# Altium footprint library Altium-IC.PcbLib: 56 footprints (part 2 of 4)
Each footprint in its own frame and in the unit in brackets; x right, y up, seen from the top. Pads: shape width x height; smd on the part's side, far side on the other; paste and mask are expansions set on the pad; w line width, h text height; cw(c..) or ccw(c..) is an arc to the next point about the centre after c.
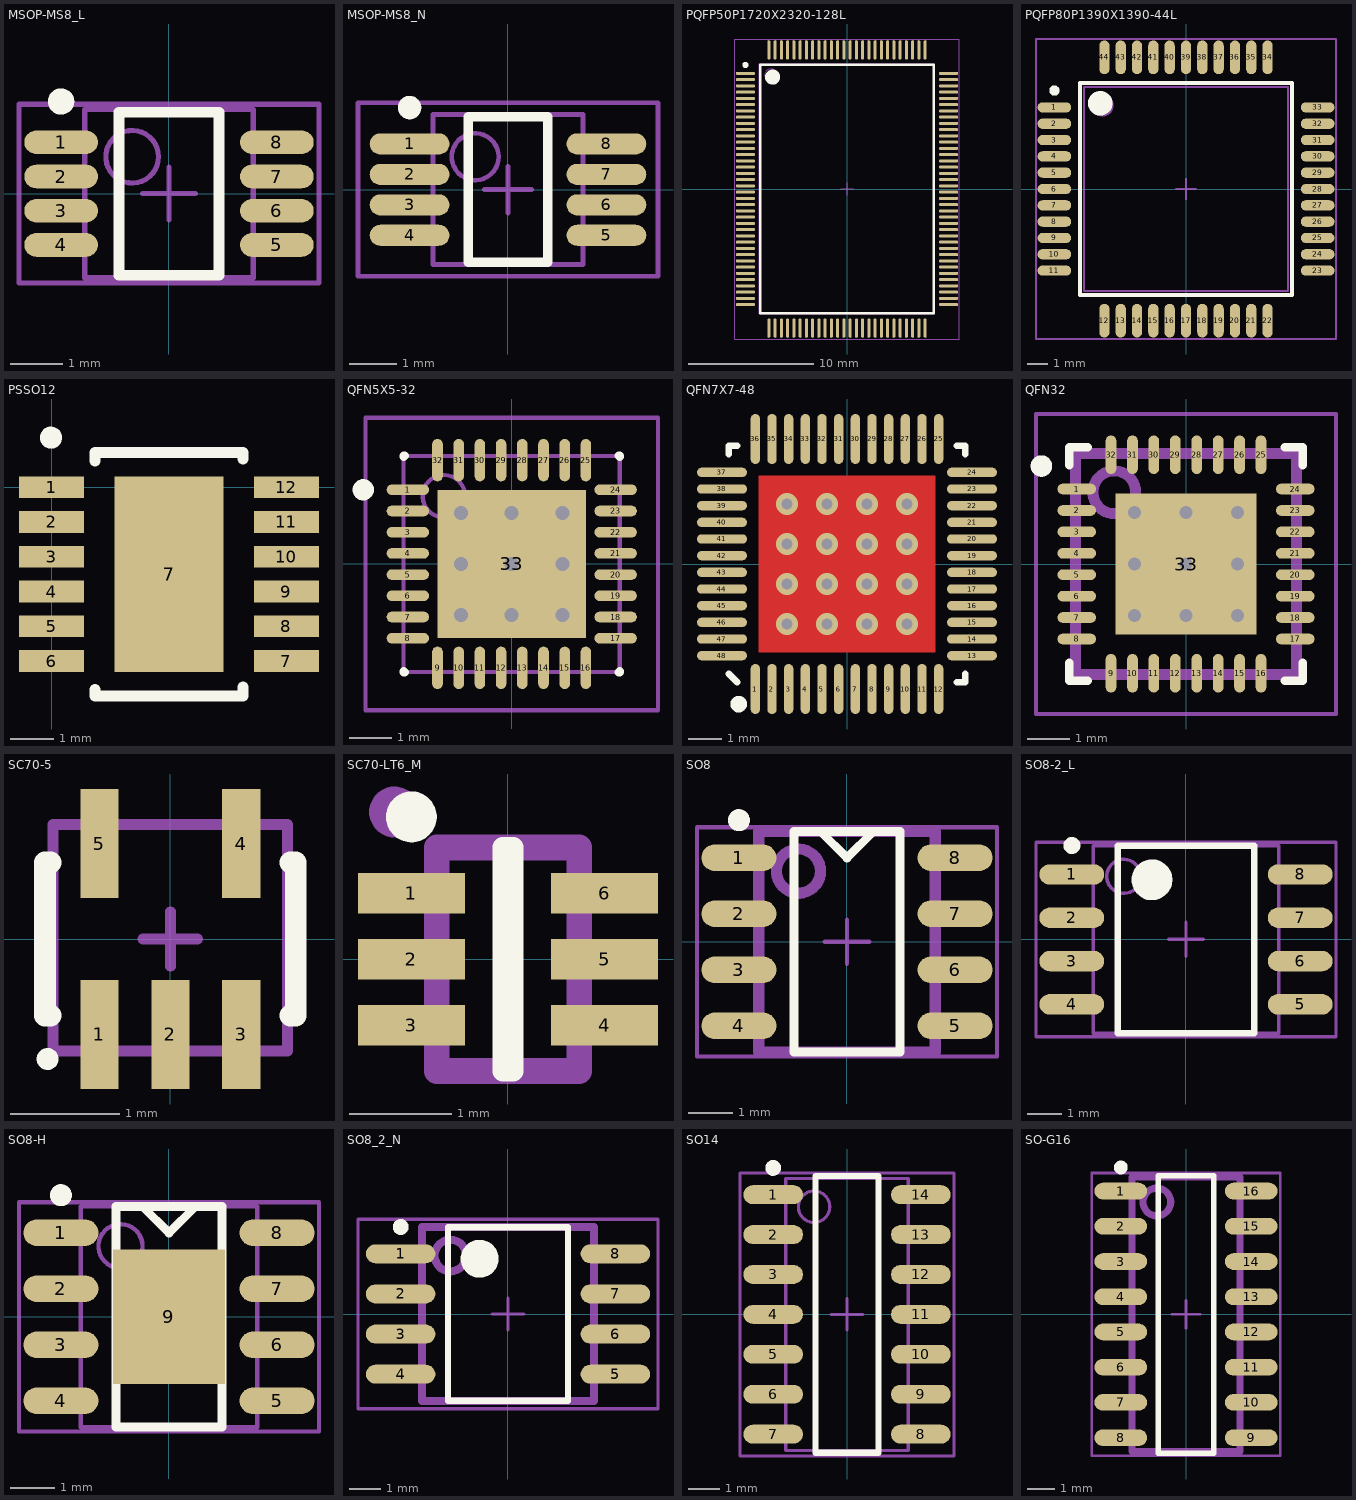
[diagram p1: the footprints below, top view; thin cyan lines are the x and y axes]

## MSOP-MS8_L [mm] "TSOP, 8-Leads, Body 3x3mm, Pitch 0.65mm, IPC High Density"
height 1.1
pads (8):
  oval 1.4x0.45 smd: 1(-2.05,0.975) 2(-2.05,0.325) 3(-2.05,-0.325) 4(-2.05,-0.975) 5(2.05,-0.975) 6(2.05,-0.325) 7(2.05,0.325) 8(2.05,0.975)
Top Overlay:
  circle w0.25: c-2.05,1.75 r0.125
  lines w0.2: -0.95,-1.55 -0.95,1.55 0.95,1.55 0.95,-1.55 -0.95,-1.55
Mechanical 13:
  circle w0.1: c-0.7,0.7 r0.5
  lines w0.1: -1.6,-1.6 -1.6,1.6 1.6,1.6 1.6,-1.6 -1.6,-1.6
Mechanical 15:
  lines w0.1: -0.5,0 0.5,0 ; 0,-0.5 0,0.5 ; -2.85,-1.7 -2.85,1.7 2.85,1.7 2.85,-1.7 -2.85,-1.7
3D body: height 1.1, standoff 0, extent -1.6,-1.6 1.6,1.6

## MSOP-MS8_N [mm] "TSOP, 8-Leads, Body 3x3mm, Pitch 0.65mm, IPC Medium Density"
height 1.1
pads (8):
  oval 1.7x0.45 smd: 1(-2.1,0.975) 2(-2.1,0.325) 3(-2.1,-0.325) 4(-2.1,-0.975) 5(2.1,-0.975) 6(2.1,-0.325) 7(2.1,0.325) 8(2.1,0.975)
Top Overlay:
  circle w0.25: c-2.1,1.75 r0.125
  lines w0.2: -0.85,-1.55 0.85,-1.55 0.85,1.55 -0.85,1.55 -0.85,-1.55
Mechanical 13:
  circle w0.1: c-0.7,0.7 r0.5
  lines w0.1: -1.6,-1.6 1.6,-1.6 1.6,1.6 -1.6,1.6 -1.6,-1.6
Mechanical 15:
  lines w0.1: -0.5,0 0.5,0 ; 0,-0.5 0,0.5 ; -3.2,-1.85 3.2,-1.85 3.2,1.85 -3.2,1.85 -3.2,-1.85
3D body: height 1.1, standoff 0, extent -1.6,-1.6 1.6,1.6

## PQFP50P1720X2320-128L [mm] "Shrink QFP, 128-Leads, Body 20x14 mm, Pitch 0.5mm, IPC High Density"
height 3
pads (128):
  oval 1.55x0.25 smd: 1(-8.125,9.25) 2(-8.125,8.75) 3(-8.125,8.25) 4(-8.125,7.75) 5(-8.125,7.25) 6(-8.125,6.75) 7(-8.125,6.25) 8(-8.125,5.75) 9(-8.125,5.25) 10(-8.125,4.75) 11(-8.125,4.25) 12(-8.125,3.75) 13(-8.125,3.25) 14(-8.125,2.75) 15(-8.125,2.25) 16(-8.125,1.75) 17(-8.125,1.25) 18(-8.125,0.75) 19(-8.125,0.25) 20(-8.125,-0.25) 21(-8.125,-0.75) 22(-8.125,-1.25) 23(-8.125,-1.75) 24(-8.125,-2.25) 25(-8.125,-2.75) 26(-8.125,-3.25) 27(-8.125,-3.75) 28(-8.125,-4.25) 29(-8.125,-4.75) 30(-8.125,-5.25) 31(-8.125,-5.75) 32(-8.125,-6.25) 33(-8.125,-6.75) 34(-8.125,-7.25) 35(-8.125,-7.75) 36(-8.125,-8.25) 37(-8.125,-8.75) 38(-8.125,-9.25) 65(8.125,-9.25) 66(8.125,-8.75) 67(8.125,-8.25) 68(8.125,-7.75) 69(8.125,-7.25) 70(8.125,-6.75) 71(8.125,-6.25) 72(8.125,-5.75) 73(8.125,-5.25) 74(8.125,-4.75) 75(8.125,-4.25) 76(8.125,-3.75) 77(8.125,-3.25) 78(8.125,-2.75) 79(8.125,-2.25) 80(8.125,-1.75) 81(8.125,-1.25) 82(8.125,-0.75) 83(8.125,-0.25) 84(8.125,0.25) 85(8.125,0.75) 86(8.125,1.25) 87(8.125,1.75) 88(8.125,2.25) 89(8.125,2.75) 90(8.125,3.25) 91(8.125,3.75) 92(8.125,4.25) 93(8.125,4.75) 94(8.125,5.25) 95(8.125,5.75) 96(8.125,6.25) 97(8.125,6.75) 98(8.125,7.25) 99(8.125,7.75) 100(8.125,8.25) 101(8.125,8.75) 102(8.125,9.25)
  oval 0.25x1.55 smd: 39(-6.25,-11.125) 40(-5.75,-11.125) 41(-5.25,-11.125) 42(-4.75,-11.125) 43(-4.25,-11.125) 44(-3.75,-11.125) 45(-3.25,-11.125) 46(-2.75,-11.125) 47(-2.25,-11.125) 48(-1.75,-11.125) 49(-1.25,-11.125) 50(-0.75,-11.125) 51(-0.25,-11.125) 52(0.25,-11.125) 53(0.75,-11.125) 54(1.25,-11.125) 55(1.75,-11.125) 56(2.25,-11.125) 57(2.75,-11.125) 58(3.25,-11.125) 59(3.75,-11.125) 60(4.25,-11.125) 61(4.75,-11.125) 62(5.25,-11.125) 63(5.75,-11.125) 64(6.25,-11.125) 103(6.25,11.125) 104(5.75,11.125) 105(5.25,11.125) 106(4.75,11.125) 107(4.25,11.125) 108(3.75,11.125) 109(3.25,11.125) 110(2.75,11.125) 111(2.25,11.125) 112(1.75,11.125) 113(1.25,11.125) 114(0.75,11.125) 115(0.25,11.125) 116(-0.25,11.125) 117(-0.75,11.125) 118(-1.25,11.125) 119(-1.75,11.125) 120(-2.25,11.125) 121(-2.75,11.125) 122(-3.25,11.125) 123(-3.75,11.125) 124(-4.25,11.125) 125(-4.75,11.125) 126(-5.25,11.125) 127(-5.75,11.125) 128(-6.25,11.125)
Top Overlay:
  circle w0.25: c-8.125,9.925 r0.125
  circle w0.6: c-5.95,8.95 r0.3
  lines w0.2: -6.95,-9.95 -6.95,9.95 6.95,9.95 6.95,-9.95 -6.95,-9.95
Mechanical 13:
  circle w0.1: c-6.1,9.1 r0.5
  lines w0.1: -7,-10 -7,10 7,10 7,-10 -7,-10
Mechanical 15:
  lines w0.1: -0.5,0 0.5,0 ; 0,-0.5 0,0.5 ; -9,-12 -9,12 9,12 9,-12 -9,-12
3D body: height 3, standoff 0, extent -7,-10 7,10

## PQFP80P1390X1390-44L [mm] "QFP, 44-Leads, Body 10x10mm, Pitch 0.8mm, IPC High Density"
height 2.44
pads (44):
  oval 1.65x0.5 smd: 1(-6.45,4) 2(-6.45,3.2) 3(-6.45,2.4) 4(-6.45,1.6) 5(-6.45,0.8) 6(-6.45,0) 7(-6.45,-0.8) 8(-6.45,-1.6) 9(-6.45,-2.4) 10(-6.45,-3.2) 11(-6.45,-4) 23(6.45,-4) 24(6.45,-3.2) 25(6.45,-2.4) 26(6.45,-1.6) 27(6.45,-0.8) 28(6.45,0) 29(6.45,0.8) 30(6.45,1.6) 31(6.45,2.4) 32(6.45,3.2) 33(6.45,4)
  oval 0.5x1.65 smd: 12(-4,-6.45) 13(-3.2,-6.45) 14(-2.4,-6.45) 15(-1.6,-6.45) 16(-0.8,-6.45) 17(0,-6.45) 18(0.8,-6.45) 19(1.6,-6.45) 20(2.4,-6.45) 21(3.2,-6.45) 22(4,-6.45) 34(4,6.45) 35(3.2,6.45) 36(2.4,6.45) 37(1.6,6.45) 38(0.8,6.45) 39(0,6.45) 40(-0.8,6.45) 41(-1.6,6.45) 42(-2.4,6.45) 43(-3.2,6.45) 44(-4,6.45)
Top Overlay:
  circle w0.25: c-6.45,4.825 r0.125
  circle w0.6: c-4.2,4.2 r0.3
  lines w0.2: -5.2,-5.2 -5.2,5.2 5.2,5.2 5.2,-5.2 -5.2,-5.2
Mechanical 13:
  circle w0.1: c-4.1,4.1 r0.5
  lines w0.1: -5,-5 -5,5 5,5 5,-5 -5,-5
Mechanical 15:
  lines w0.1: -0.5,0 0.5,0 ; 0,-0.5 0,0.5 ; -7.35,-7.35 -7.35,7.35 7.35,7.35 7.35,-7.35 -7.35,-7.35
3D body: height 1.9, standoff 0, extent -6.3,-6.3 6.3,6.3

## PSSO12 [mm]
height 1.65
pads (13):
  rect 1.5x0.5 smd: 1(0,0) 2(0,-0.8) 3(0,-1.6) 4(0,-2.4) 5(0,-3.2) 6(0,-4) 7(5.4,-4) 8(5.4,-3.2) 9(5.4,-2.4) 10(5.4,-1.6) 11(5.4,-0.8) 12(5.4,0)
  rect 2.5x4.5 smd: 7(2.7,-2)
Top Overlay:
  circle w0.254: c-0.015,1.138 r0.127
  lines w0.254: 1,-4.65 1,-4.8 2.7,-4.8 4.4,-4.8 4.4,-4.6 ; 1,0.6 1,0.8 2.7,0.8 4.4,0.8 4.4,0.65
3D body: height 1.65, standoff 0, extent 0.8,-4.75 4.6,0.75

## QFN5X5-32 [mm] "QFN, 32-Leads, Body 5,1x5,1mm (max), Pitch 0,50mm, IPC Low Density"
height 1
pads (33):
  oval 1x0.25 smd: 1(-2.45,1.75) 2(-2.45,1.25) 3(-2.45,0.75) 4(-2.45,0.25) 5(-2.45,-0.25) 6(-2.45,-0.75) 7(-2.45,-1.25) 8(-2.45,-1.75) 17(2.45,-1.75) 18(2.45,-1.25) 19(2.45,-0.75) 20(2.45,-0.25) 21(2.45,0.25) 22(2.45,0.75) 23(2.45,1.25) 24(2.45,1.75)
  oval 0.25x1 smd: 9(-1.75,-2.45) 10(-1.25,-2.45) 11(-0.75,-2.45) 12(-0.25,-2.45) 13(0.25,-2.45) 14(0.75,-2.45) 15(1.25,-2.45) 16(1.75,-2.45) 25(1.75,2.45) 26(1.25,2.45) 27(0.75,2.45) 28(0.25,2.45) 29(-0.25,2.45) 30(-0.75,2.45) 31(-1.25,2.45) 32(-1.75,2.45)
  rect 3.5x3.5 smd: 33(0,0)
via -1.2,1.2 diameter 0.66 hole 0.33
via 0,1.2 diameter 0.66 hole 0.33
via 1.2,1.2 diameter 0.66 hole 0.33
via -1.2,0 diameter 0.66 hole 0.33
via 0,0 diameter 0.66 hole 0.33
via 1.2,0 diameter 0.66 hole 0.33
via -1.2,-1.2 diameter 0.66 hole 0.33
via 0,-1.2 diameter 0.66 hole 0.33
via 1.2,-1.2 diameter 0.66 hole 0.33
Top Overlay:
  circle w0.25: c-3.5,1.75 r0.125
  lines w0.2: -2.55,-2.525 -2.55,-2.55 -2.525,-2.55 ; -2.55,2.525 -2.55,2.55 -2.525,2.55 ; 2.525,-2.55 2.55,-2.55 2.55,-2.525 ; 2.525,2.55 2.55,2.55 2.55,2.525
Mechanical 13:
  circle w0.1: c-1.6,1.6 r0.5
  lines w0.1: -2.55,-2.55 -2.55,2.55 2.55,2.55 2.55,-2.55 -2.55,-2.55
Mechanical 15:
  lines w0.1: -0.5,0 0.5,0 ; 0,-0.5 0,0.5 ; -3.45,-3.45 -3.45,3.45 3.45,3.45 3.45,-3.45 -3.45,-3.45
3D body: height 1, standoff 0.02, extent -2.55,-2.55 2.55,2.55

## QFN7X7-48 [mm]
height 0.9
pads (48):
  oval 0.28x1.5 smd: 1(-2.75,-3.75) 2(-2.25,-3.75) 3(-1.75,-3.75) 4(-1.25,-3.75) 5(-0.75,-3.75) 6(-0.25,-3.75) 7(0.25,-3.75) 8(0.75,-3.75) 9(1.25,-3.75) 10(1.75,-3.75) 11(2.25,-3.75) 12(2.75,-3.75) 25(2.75,3.75) 26(2.25,3.75) 27(1.75,3.75) 28(1.25,3.75) 29(0.75,3.75) 30(0.25,3.75) 31(-0.25,3.75) 32(-0.75,3.75) 33(-1.25,3.75) 34(-1.75,3.75) 35(-2.25,3.75) 36(-2.75,3.75)
  oval 1.5x0.28 smd: 13(3.75,-2.75) 14(3.75,-2.25) 15(3.75,-1.75) 16(3.75,-1.25) 17(3.75,-0.75) 18(3.75,-0.25) 19(3.75,0.25) 20(3.75,0.75) 21(3.75,1.25) 22(3.75,1.75) 23(3.75,2.25) 24(3.75,2.75) 37(-3.75,2.75) 38(-3.75,2.25) 39(-3.75,1.75) 40(-3.75,1.25) 41(-3.75,0.75) 42(-3.75,0.25) 43(-3.75,-0.25) 44(-3.75,-0.75) 45(-3.75,-1.25) 46(-3.75,-1.75) 47(-3.75,-2.25) 48(-3.75,-2.75)
via -1.8,-1.8 diameter 0.66 hole 0.33
via -1.8,-0.6 diameter 0.66 hole 0.33
via -0.6,-1.8 diameter 0.66 hole 0.33
via -0.6,-0.6 diameter 0.66 hole 0.33
via -1.8,0.6 diameter 0.66 hole 0.33
via -1.8,1.8 diameter 0.66 hole 0.33
via -0.6,0.6 diameter 0.66 hole 0.33
via -0.6,1.8 diameter 0.66 hole 0.33
via 1.8,-0.6 diameter 0.66 hole 0.33
via 1.8,-1.8 diameter 0.66 hole 0.33
via 0.6,-1.8 diameter 0.66 hole 0.33
via 0.6,-0.6 diameter 0.66 hole 0.33
via 1.8,1.8 diameter 0.66 hole 0.33
via 1.8,0.6 diameter 0.66 hole 0.33
via 0.6,0.6 diameter 0.66 hole 0.33
via 0.6,1.8 diameter 0.66 hole 0.33
Top Layer:
  region: -2.65,-2.65 2.65,-2.65 2.65,2.65 -2.65,2.65
Top Overlay:
  circle w0.25: c-3.25,-4.205 r0.125
  lines w0.2: -3.55,-3.29 -3.29,-3.55 ; -3.55,3.29 -3.55,3.55 -3.29,3.55 ; 3.29,-3.55 3.55,-3.55 3.55,-3.29 ; 3.29,3.55 3.55,3.55 3.55,3.29
Top Solder:
  region: -2.65,-2.65 2.65,-2.65 2.65,2.65 -2.65,2.65
3D body: height 0.9, standoff 0, extent -3.5,-3.5 3.5,3.5

## QFN32 [mm]
pads (33):
  oval 0.9x0.25 smd: 1(-2.55,1.75) 2(-2.55,1.25) 3(-2.55,0.75) 4(-2.55,0.25) 5(-2.55,-0.25) 6(-2.55,-0.75) 7(-2.55,-1.25) 8(-2.55,-1.75) 17(2.55,-1.75) 18(2.55,-1.25) 19(2.55,-0.75) 20(2.55,-0.25) 21(2.55,0.25) 22(2.55,0.75) 23(2.55,1.25) 24(2.55,1.75)
  oval 0.25x0.9 smd: 9(-1.75,-2.55) 10(-1.25,-2.55) 11(-0.75,-2.55) 12(-0.25,-2.55) 13(0.25,-2.55) 14(0.75,-2.55) 15(1.25,-2.55) 16(1.75,-2.55) 25(1.75,2.55) 26(1.25,2.55) 27(0.75,2.55) 28(0.25,2.55) 29(-0.25,2.55) 30(-0.75,2.55) 31(-1.25,2.55) 32(-1.75,2.55)
  rect 3.3x3.3 smd: 33(0,0)
via 1.2,-1.2 diameter 0.8 hole 0.3
via 0,-1.2 diameter 0.8 hole 0.3
via -1.2,-1.2 diameter 0.8 hole 0.3
via 1.2,0 diameter 0.8 hole 0.3
via 0,0 diameter 0.8 hole 0.3
via -1.2,0 diameter 0.8 hole 0.3
via 1.2,1.2 diameter 0.8 hole 0.3
via 0,1.2 diameter 0.8 hole 0.3
via -1.2,1.2 diameter 0.8 hole 0.3
Top Overlay:
  circle w0.25: c-3.376,2.286 r0.125
  lines w0.2: -2.725,-2.3 -2.725,-2.725 -2.3,-2.725 ; -2.725,2.3 -2.725,2.725 -2.3,2.725 ; 2.3,-2.725 2.725,-2.725 2.725,-2.3 ; 2.3,2.725 2.725,2.725 2.725,2.3
Mechanical 13:
  circle w0.254: c-1.675,1.675 r0.5
  lines w0.254: -2.575,-2.575 2.575,-2.575 2.575,2.575 -2.575,2.575 -2.575,-2.575
  text ".Designator" at -3.65,3.9 h2
Mechanical 15:
  lines w0.1: -0.5,0 0.5,0 ; 0,-0.5 0,0.5 ; -3.5,-3.5 3.5,-3.5 3.5,3.5 -3.5,3.5 -3.5,-3.5
3D body: height 1, standoff 0, extent -2.575,-2.575 2.575,2.575

## SC70-5 [mm] "SOT-353/SC-88A; 5 Leads; Body 2.2 x 2.4 mm, inc. leads (LxW max)"
height 1.1
pads (5):
  rect 0.35x1 smd: 1(-0.65,-0.875) 2(0,-0.875) 3(0.65,-0.875) 4(0.65,0.875) 5(-0.65,0.875)
Top Overlay:
  circle w0.1: c-1.125,-1.1 r0.05
  lines w0.2: -1.1,-0.7 -1.15,-0.7 -1.15,0.7 -1.1,0.7 ; 1.1,-0.7 1.15,-0.7 1.15,0.7 1.1,0.7
Mechanical 13:
  lines w0.1: -1.075,-1.025 1.075,-1.025 1.075,1.05 -1.075,1.05 -1.075,-1.025
Mechanical 15:
  lines w0.1: -0.25,0 0.25,0 ; 0,-0.25 0,0.25
3D body: height 0.95, standoff 0, extent -1,-1.05 1,1.05

## SC70-LT6_M [mm] "SOT363, 6-Leads, Body 2x1.3mm, Pitch 0.65mm, Lead Span 2.1mm, IPC Low Density"
pads (6):
  rect 1.05x0.4 smd: 1(-0.95,0.65) 2(-0.95,0) 3(-0.95,-0.65) 4(0.95,-0.65) 5(0.95,0) 6(0.95,0.65)
Top Overlay:
  circle w0.25: c-0.95,1.4 r0.125
  lines w0.2: -0.05,-1.1 -0.05,1.1 0.05,1.1 0.05,-1.1 -0.05,-1.1
Mechanical 13:
  circle w0.25: c-1.116,1.448 r0.125
  lines w0.254: -1.27,-0.635 -0.737,-0.635 ; -1.245,0.025 -0.711,0.025 ; -1.245,0.686 -0.711,0.686 ; 0.711,-0.635 1.245,-0.635 ; 0.711,0.025 1.245,0.025 ; 0.711,0.686 1.245,0.686 ; -0.7,-1.1 0.7,-1.1 0.7,1.1 -0.7,1.1 -0.7,-1.1
  text ".Designator" at -1.475,2.225 h2
3D body: height 1.1, standoff 0, extent -0.7,-1.1 0.7,1.1

## SO8 [mm] "SOIC, 8-Leads, Body 4.9x3.9mm, Pitch 1.27mm, IPC High Density"
height 1.75
pads (8):
  oval 1.7x0.6 smd: 1(-2.45,1.905) 2(-2.45,0.635) 3(-2.45,-0.635) 4(-2.45,-1.905) 5(2.45,-1.905) 6(2.45,-0.635) 7(2.45,0.635) 8(2.45,1.905)
Top Overlay:
  circle w0.25: c-2.45,2.755 r0.125
  lines w0.2: 0.6,2.5 0,1.9 ; -0.6,2.5 -0.6,2.5 ; -0.6,2.5 0,1.9 ; 0,1.9 0,1.9 ; -1.2,-2.5 -1.2,2.5 1.2,2.5 1.2,-2.5 -1.2,-2.5
Mechanical 13:
  circle w0.254: c-1.1,1.6 r0.5
  lines w0.254: -2,-2.032 -3.067,-2.032 -3.067,-1.778 -2,-1.778 ; -2,-0.762 -3.067,-0.762 -3.067,-0.508 -2,-0.508 ; -2,0.508 -3.067,0.508 -3.067,0.762 -2,0.762 ; -2,1.778 -3.067,1.778 -3.067,2.032 -2,2.032 ; 2,-2.032 3.067,-2.032 3.067,-1.778 2,-1.778 ; 2,-0.762 3.067,-0.762 3.067,-0.508 2,-0.508 ; 2,0.508 3.067,0.508 3.067,0.762 2,0.762 ; 2,1.778 3.067,1.778 3.067,2.032 2,2.032 ; -2,-2.5 -2,2.5 2,2.5 2,-2.5 -2,-2.5
  text ".Designator" at -3.3,3.5 h2
Mechanical 15:
  lines w0.1: -0.5,0 0.5,0 ; 0,-0.5 0,0.5 ; -3.4,-2.6 -3.4,2.6 3.4,2.6 3.4,-2.6 -3.4,-2.6
3D body: height 1.53, standoff 0, extent -3,-2.45 3,2.45

## SO8-2_L [mm] "8-Pin Small Outline Package 200mil, 1.27 mm Pitch, IPC High Density"
height 2.03
pads (8):
  oval 1.9x0.6 smd: 1(-3.35,1.905) 2(-3.35,0.635) 3(-3.35,-0.635) 4(-3.35,-1.905) 5(3.35,-1.905) 6(3.35,-0.635) 7(3.35,0.635) 8(3.35,1.905)
Top Overlay:
  circle w0.6: c-1,1.75 r0.3
  circle w0.25: c-3.35,2.755 r0.125
  lines w0.2: -2,-2.75 2,-2.75 2,2.75 -2,2.75 -2,-2.75
Mechanical 13:
  circle w0.1: c-1.825,1.85 r0.5
  lines w0.1: -2.725,-2.75 2.725,-2.75 2.725,2.75 -2.725,2.75 -2.725,-2.75
Mechanical 15:
  lines w0.1: -0.5,0 0.5,0 ; 0,-0.5 0,0.5 ; -4.4,-2.85 4.4,-2.85 4.4,2.85 -4.4,2.85 -4.4,-2.85
3D body: height 2.03, standoff 0, extent -2.725,-2.75 2.725,2.75

## SO8-H [mm] "SOIC with Exposed pad, 8-Leads, Body 4.9x3.9mm, Pitch 1.27mm, IPC High Density"
height 1.75
pads (9):
  oval 1.7x0.6 smd: 1(-2.45,1.905) 2(-2.45,0.635) 3(-2.45,-0.635) 4(-2.45,-1.905) 5(2.45,-1.905) 6(2.45,-0.635) 7(2.45,0.635) 8(2.45,1.905)
  rect 2.54x3.048 smd: 9(0,0)
Top Overlay:
  circle w0.25: c-2.45,2.755 r0.125
  lines w0.2: 0.6,2.5 0,1.9 ; -0.6,2.5 0,1.9 ; -0.6,2.5 -0.6,2.5 ; 0,1.9 0,1.9 ; -1.2,-2.5 1.2,-2.5 1.2,2.5 -1.2,2.5 -1.2,-2.5
Mechanical 13:
  circle w0.1: c-1.1,1.6 r0.5
  lines w0.1: -2,-2.5 2,-2.5 2,2.5 -2,2.5 -2,-2.5
Mechanical 15:
  lines w0.1: -0.5,0 0.5,0 ; 0,-0.5 0,0.5 ; -3.4,-2.6 3.4,-2.6 3.4,2.6 -3.4,2.6 -3.4,-2.6
3D body: height 1.53, standoff 0, extent -3,-2.45 3,2.45

## SO8_2_N [mm] "8-Pin Small Outline Package 200mil, 1.27 mm Pitch, IPC Medium Density"
height 2.03
pads (8):
  oval 2.2x0.6 smd: 1(-3.4,1.905) 2(-3.4,0.635) 3(-3.4,-0.635) 4(-3.4,-1.905) 5(3.4,-1.905) 6(3.4,-0.635) 7(3.4,0.635) 8(3.4,1.905)
Top Overlay:
  circle w0.6: c-0.9,1.75 r0.3
  circle w0.25: c-3.4,2.755 r0.125
  lines w0.2: -1.9,-2.75 1.9,-2.75 1.9,2.75 -1.9,2.75 -1.9,-2.75
Mechanical 13:
  circle w0.254: c-1.825,1.85 r0.5
  lines w0.254: -3.7,-1.9 -2.725,-1.9 ; -3.7,-0.6 -2.725,-0.6 ; -3.7,0.65 -2.725,0.65 ; -3.7,1.9 -2.725,1.9 ; 2.725,-1.9 3.7,-1.9 ; 2.725,-0.6 3.7,-0.6 ; 2.725,0.65 3.7,0.65 ; 2.725,1.9 3.7,1.9 ; -2.725,-2.75 2.725,-2.75 2.725,2.75 -2.725,2.75 -2.725,-2.75
  text ".Designator" at -3.575,3.75 h2
Mechanical 15:
  lines w0.1: -0.5,0 0.5,0 ; 0,-0.5 0,0.5 ; -4.75,-3 4.75,-3 4.75,3 -4.75,3 -4.75,-3
3D body: height 2.03, standoff 0, extent -2.725,-2.75 2.725,2.75

## SO14 [mm] "SOIC, 14-Leads, Body 8.7x3.9mm, Pitch 1.27mm, IPC High Density"
height 1.75
pads (14):
  oval 1.9x0.6 smd: 1(-2.35,3.81) 2(-2.35,2.54) 3(-2.35,1.27) 4(-2.35,0) 5(-2.35,-1.27) 6(-2.35,-2.54) 7(-2.35,-3.81) 8(2.35,-3.81) 9(2.35,-2.54) 10(2.35,-1.27) 11(2.35,0) 12(2.35,1.27) 13(2.35,2.54) 14(2.35,3.81)
Top Overlay:
  circle w0.25: c-2.35,4.66 r0.125
  lines w0.2: -1,-4.4 -1,4.4 1,4.4 1,-4.4 -1,-4.4
Mechanical 13:
  circle w0.1: c-1.05,3.425 r0.5
  lines w0.1: -1.95,-4.325 -1.95,4.325 1.95,4.325 1.95,-4.325 -1.95,-4.325
Mechanical 15:
  lines w0.1: -0.5,0 0.5,0 ; 0,-0.5 0,0.5 ; -3.4,-4.5 -3.4,4.5 3.4,4.5 3.4,-4.5 -3.4,-4.5
3D body: height 1.53, standoff 0, extent -3,-4.325 3,4.325

## SO-G16 [mm] "SOIC, 16-Leads, Body 9.9x3.9mm, Pitch 1.27mm, IPC High Density"
height 1.75
pads (16):
  oval 1.9x0.6 smd: 1(-2.35,4.445) 2(-2.35,3.175) 3(-2.35,1.905) 4(-2.35,0.635) 5(-2.35,-0.635) 6(-2.35,-1.905) 7(-2.35,-3.175) 8(-2.35,-4.445) 9(2.35,-4.445) 10(2.35,-3.175) 11(2.35,-1.905) 12(2.35,-0.635) 13(2.35,0.635) 14(2.35,1.905) 15(2.35,3.175) 16(2.35,4.445)
Top Overlay:
  circle w0.25: c-2.35,5.295 r0.125
  lines w0.2: -1,-5 1,-5 1,5 -1,5 -1,-5
Mechanical 13:
  circle w0.254: c-1.05,4.05 r0.5
  lines w0.254: -1.956,4.318 -3.023,4.318 -3.023,4.572 -1.956,4.572 ; -1.95,-4.572 -3.017,-4.572 -3.017,-4.318 -1.95,-4.318 ; -1.95,-3.302 -3.017,-3.302 -3.017,-3.048 -1.95,-3.048 ; -1.95,-2.032 -3.017,-2.032 -3.017,-1.778 -1.95,-1.778 ; -1.95,-0.762 -3.017,-0.762 -3.017,-0.508 -1.95,-0.508 ; -1.95,0.508 -3.017,0.508 -3.017,0.762 -1.95,0.762 ; -1.95,1.778 -3.017,1.778 -3.017,2.032 -1.95,2.032 ; -1.95,3.048 -3.017,3.048 -3.017,3.302 -1.95,3.302 ; 1.95,-4.572 3.017,-4.572 3.017,-4.318 1.95,-4.318 ; 1.95,-3.302 3.017,-3.302 3.017,-3.048 1.95,-3.048 ; 1.95,-2.032 3.017,-2.032 3.017,-1.778 1.95,-1.778 ; 1.95,-0.762 3.017,-0.762 3.017,-0.508 1.95,-0.508 ; 1.95,0.508 3.017,0.508 3.017,0.762 1.95,0.762 ; 1.95,1.778 3.017,1.778 3.017,2.032 1.95,2.032 ; 1.95,3.048 3.017,3.048 3.017,3.302 1.95,3.302 ; 1.95,4.318 3.017,4.318 3.017,4.572 1.95,4.572 ; -1.95,-4.95 1.95,-4.95 1.95,4.95 -1.95,4.95 -1.95,-4.95
  text ".Designator" at -3.6,5.925 h2
Mechanical 15:
  lines w0.1: -0.5,0 0.5,0 ; 0,-0.5 0,0.5 ; -3.4,-5.1 3.4,-5.1 3.4,5.1 -3.4,5.1 -3.4,-5.1
3D body: height 1.53, standoff 0, extent -3,-4.95 3,4.95